# Altium footprint library MyPcbLib.PcbLib: 19 footprints (part 1 of 2)
Each footprint in its own frame and in the unit in brackets; x right, y up, seen from the top. Pads: shape width x height; smd on the part's side, far side on the other; paste and mask are expansions set on the pad; w line width, h text height; cw(c..) or ccw(c..) is an arc to the next point about the centre after c.
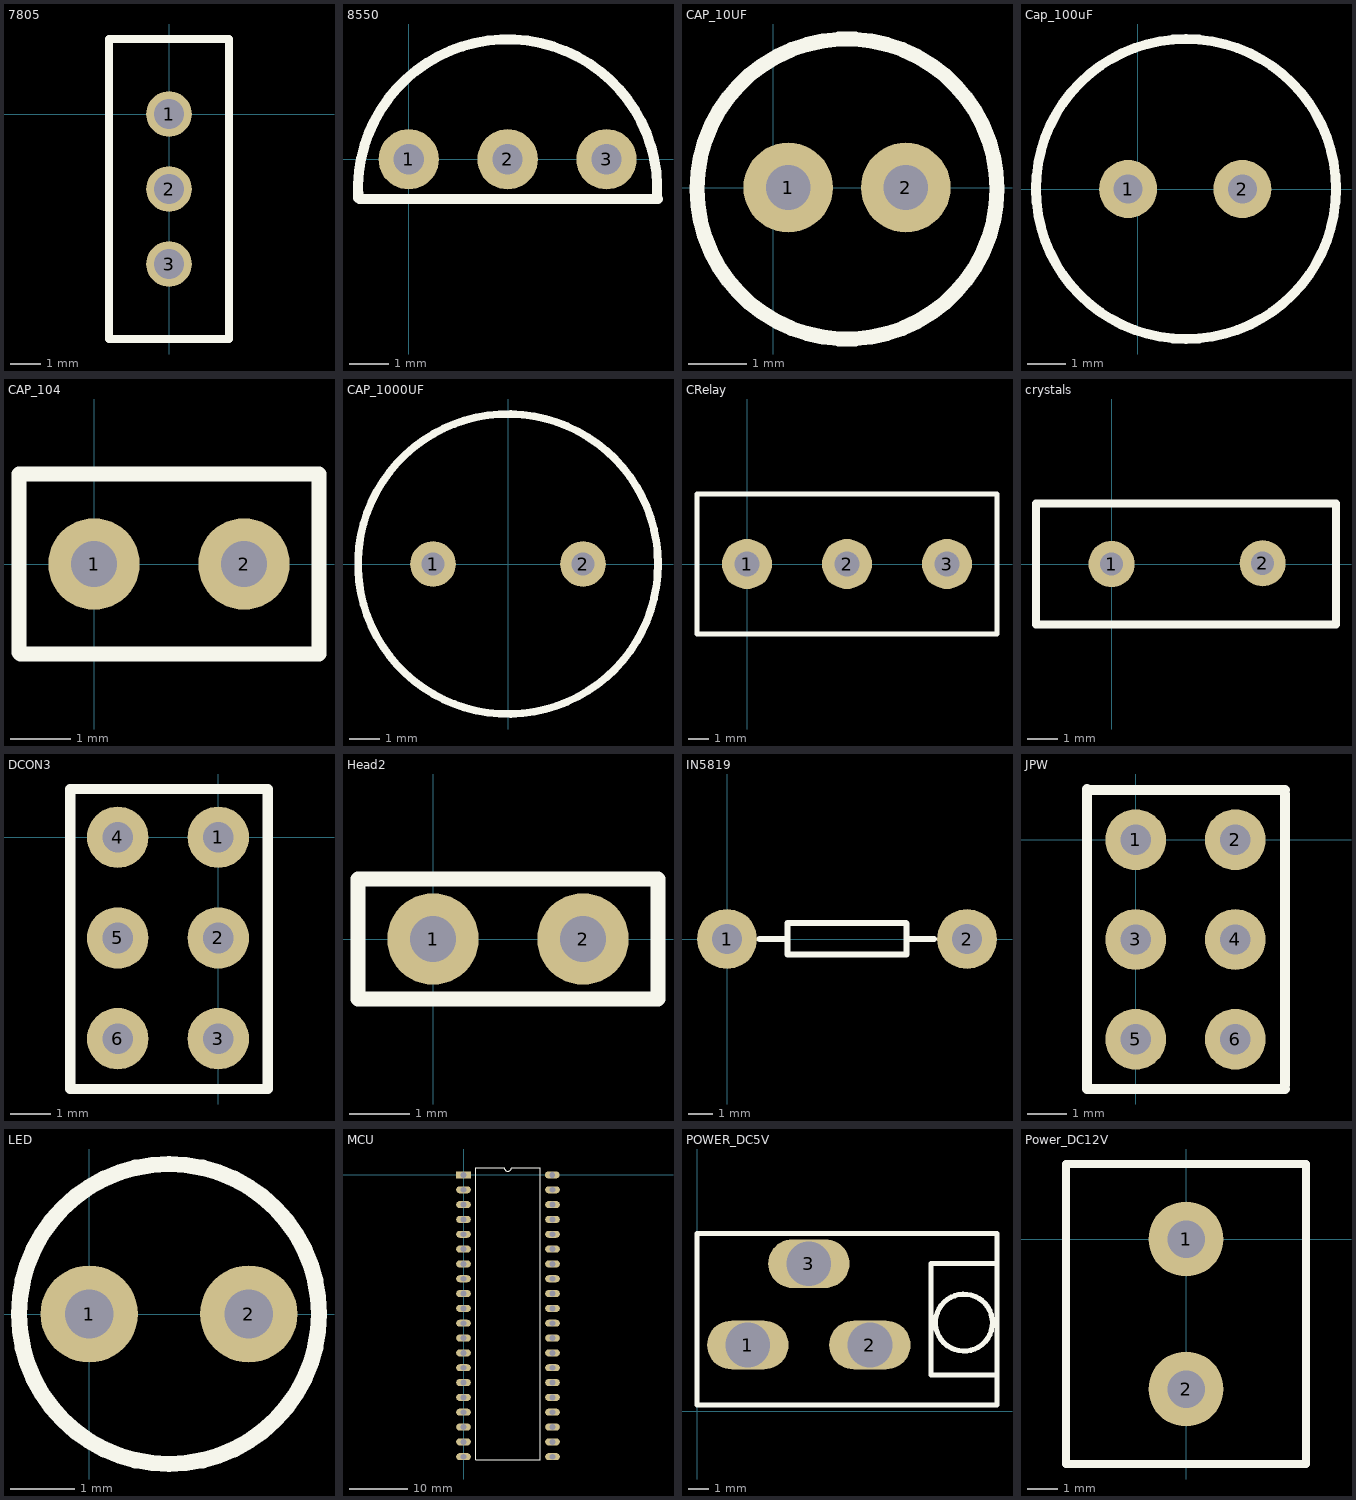
[diagram p0: the footprints below, top view; thin cyan lines are the x and y axes]

## 7805 [mil]
height 787.4
pads (3):
  round 60 hole 39.37: 1(0,0) 2(0,-98.43) 3(0,-196.85)
Top Overlay:
  lines w10: -78.74,-295.28 -78.74,98.43 78.74,98.43 78.74,-295.28 -78.74,-295.28

## 8550 [mil]
height 157.48
pads (3):
  round 60 hole 30: 1(0,0) 2(98.43,0) 3(196.85,0)
Top Overlay:
  lines w10: -50.2,-38.39 cw(c98.43,-29.53) 247.03,-38.73 ; -49.19,-39.37 248.03,-39.37

## CAP_10UF [mil]
height 472.44
pads (2):
  round 60 hole 30: 1(9.84,0) 2(88.58,0)
Top Overlay:
  circle w10: c49.21,-0.98 r100.4

## Cap_100uF [mil]
height 314.96
pads (2):
  round 60 hole 30: 1(-9.84,0) 2(108.27,0)
Top Overlay:
  circle w10: c50,0 r155

## CAP_104 [mil]
height 157.48
pads (2):
  round 60 hole 30: 1(0,0) 2(98.43,0)
Top Overlay:
  lines w10: -49.21,-58.07 -48.23,-59.06 147.64,-59.06 147.64,59.06 -49.21,59.06 -49.21,-58.07

## CAP_1000UF [mil]
height 787.4
pads (2):
  round 60 hole 30: 1(-98.43,0) 2(98.43,0)
Top Overlay:
  circle w10: c0,0 r196.85

## CRelay [mm]
height 10
pads (3):
  round 2.5 hole 1.25: 1(0,0) 2(5,0) 3(10,0)
Top Overlay:
  lines w0.254: -2.5,-3.5 -2.5,3.5 12.5,3.5 12.5,-3.5 -2.5,-3.5

## crystals [mil]
height 118.11
pads (2):
  round 60 hole 30: 1(0,0) 2(196.85,0.98)
Top Overlay:
  lines w10: -98.43,-78.74 292.32,-78.74 292.32,78.74 -98.43,78.74 -98.43,-78.74

## DCON3 [mil]
height 393.7
pads (6):
  round 60 hole 30: 1(0,0) 2(0,-98.43) 3(0,-196.85) 4(-98.43,0) 5(-98.43,-98.43) 6(-98.43,-196.85)
Top Overlay:
  lines w10: -144.69,47.24 -144.69,-246.06 48.23,-246.06 48.23,47.24 -141.73,47.24

## Head2 [mil]
height 314.96
pads (2):
  round 60 hole 30: 1(0,0) 2(98.43,0)
Top Overlay:
  lines w10: -49.21,-39.37 147.64,-39.37 147.64,39.37 -49.21,39.37 -49.21,-39.37

## IN5819 [mm]
height 3
pads (2):
  round 2.5 hole 1.25: 1(0,0) 2(10,0)
Top Overlay:
  lines w0.254: 1.35,0 2.525,0 ; 2.525,0.65 2.525,-0.65 7.475,-0.65 7.475,0.65 ; 2.525,0.675 7.45,0.675 ; 7.475,0 8.625,0

## JPW [mil]
height 393.7
pads (6):
  round 60 hole 30: 1(0,0) 2(98.43,0) 3(0,-98.43) 4(98.43,-98.43) 5(0,-196.85) 6(98.43,-196.85)
Top Overlay:
  lines w10: -48.23,-246.06 147.64,-246.06 ; -48.23,-245.08 -48.23,50.2 ; -47.24,49.21 147.64,49.21 ; 147.64,-242.13 147.64,45.28

## LED [mil]
pads (2):
  round 60 hole 30: 1(0,0) 2(98.43,0)
Top Overlay:
  circle w10: c49.21,0 r92.52

## MCU [mm] "STC89C52RC"
height 3.048
pads (40):
  rect 2.5x1.2 hole 1: 1(0,0)
  oval 2.5x1.2 hole 1: 2(0,-2.54) 3(0,-5.08) 4(0,-7.62) 5(0,-10.16) 6(0,-12.7) 7(0,-15.24) 8(0,-17.78) 9(0,-20.32) 10(0,-22.86) 11(0,-25.4) 12(0,-27.94) 13(0,-30.48) 14(0,-33.02) 15(0,-35.56) 16(0,-38.1) 17(0,-40.64) 18(0,-43.18) 19(0,-45.72) 20(0,-48.26) 21(15.24,-48.26) 22(15.24,-45.72) 23(15.24,-43.18) 24(15.24,-40.64) 25(15.24,-38.1) 26(15.24,-35.56) 27(15.24,-33.02) 28(15.24,-30.48) 29(15.24,-27.94) 30(15.24,-25.4) 31(15.24,-22.86) 32(15.24,-20.32) 33(15.24,-17.78) 34(15.24,-15.24) 35(15.24,-12.7) 36(15.24,-10.16) 37(15.24,-7.62) 38(15.24,-5.08) 39(15.24,-2.54) 40(15.2,0)
Top Overlay:
  lines w0.2: 2.085,-48.75 13.115,-48.75 13.115,1.25 8.225,1.25 cw(c7.6,1.25) 6.975,1.25 2.085,1.25 2.085,-48.75

## POWER_DC5V [mm]
height 8.5
pads (3):
  oval 4x2.4 hole 2.2: 1(2.5,3.25) 2(8.5,3.25) 3(5.5,7.25)
Top Overlay:
  circle w0.254: c13.125,4.35 r1.4
  lines w0.254: 14.75,1.775 11.5,1.775 11.5,7.25 14.75,7.25 ; 0,0.3 14.75,0.3 14.75,8.725 0,8.725 0,0.3

## Power_DC12V [mm]
height 10
pads (2):
  round 2.5 hole 1.25: 1(0,0) 2(0,-5)
Top Overlay:
  lines w0.254: -4,-7.5 -4,2.5 4,2.5 4,-7.5 -4,-7.5